# Altium schematic symbol library BQ25756ERRVR.SchLib: 1 symbol
Pins are listed as number, name and electrical type; pins without a type are passive.

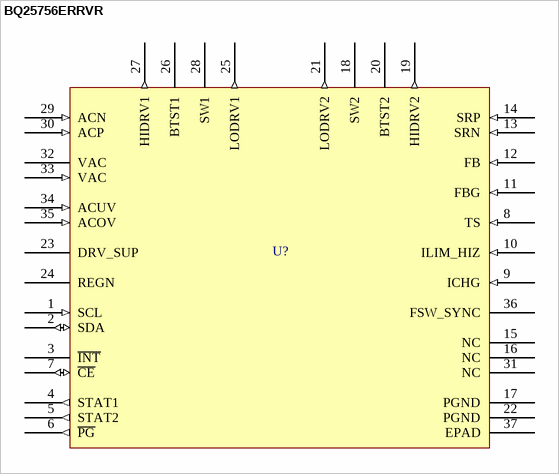
[diagram p0: symbol BQ25756ERRVR]

## BQ25756ERRVR
designator U?
Standalone/I2C Controlled, 1- to 7-Cell Bidirectional Buck-Boost Battery Charge Controller
pins: 1 SCL (in), 2 SDA (io), 3 ~{INT} (oc), 4 STAT1 (out), 5 STAT2 (out), 6 ~{PG} (out), 7 ~{CE} (io), 8 TS (in), 9 ICHG (in), 10 ILIM_HIZ (in), 11 FBG (in), 12 FB (in), 13 SRN (in), 14 SRP (in), 15 NC, 16 NC, 17 PGND (power), 18 SW2 (power), 19 HIDRV2 (out), 20 BTST2 (power), 21 LODRV2 (out), 22 PGND (power), 23 DRV_SUP (power), 24 REGN (power), 25 LODRV1 (out), 26 BTST1 (power), 27 HIDRV1 (out), 28 SW1 (power), 29 ACN (in), 30 ACP (in), 31 NC, 32 VAC (power), 33 VAC (in), 34 ACUV (in), 35 ACOV (in), 36 FSW_SYNC (power), 37 EPAD (power)